# Altium footprint library misc.PCBLIB: 49 footprints (part 4 of 4)
Each footprint in its own frame and in the unit in brackets; x right, y up, seen from the top. Pads: shape width x height; smd on the part's side, far side on the other; paste and mask are expansions set on the pad; w line width, h text height; cw(c..) or ccw(c..) is an arc to the next point about the centre after c.
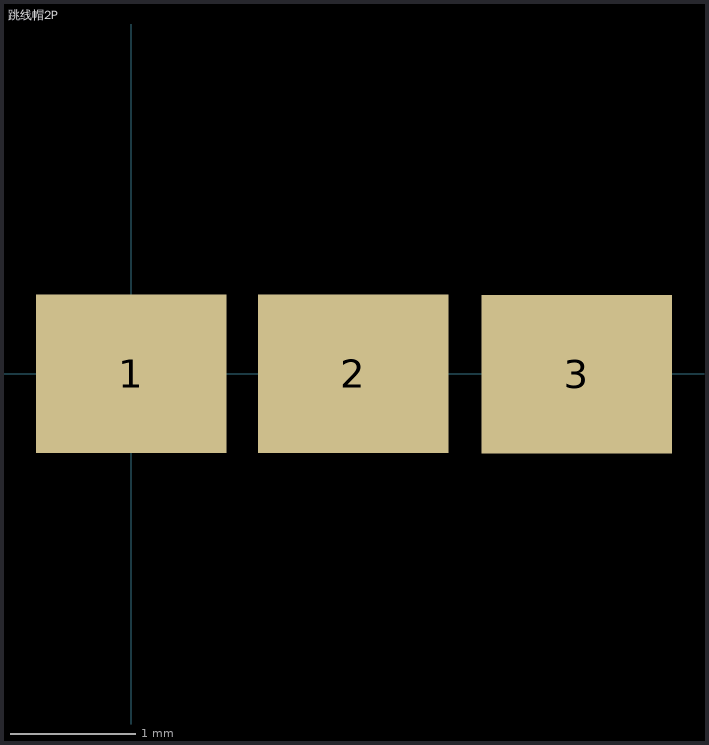
[diagram p3: the footprint, top view; thin cyan lines are the x and y axes]

## 跳线帽2P [mil]
pads (3):
  rect 60x50 smd: 1(0,0) 2(70,0) 3(140.43,-0.24)